# Altium schematic symbol library Chronos.SchLib: 154 symbols (part 1 of 4)
Pins are listed as number, name and electrical type; pins without a type are passive.

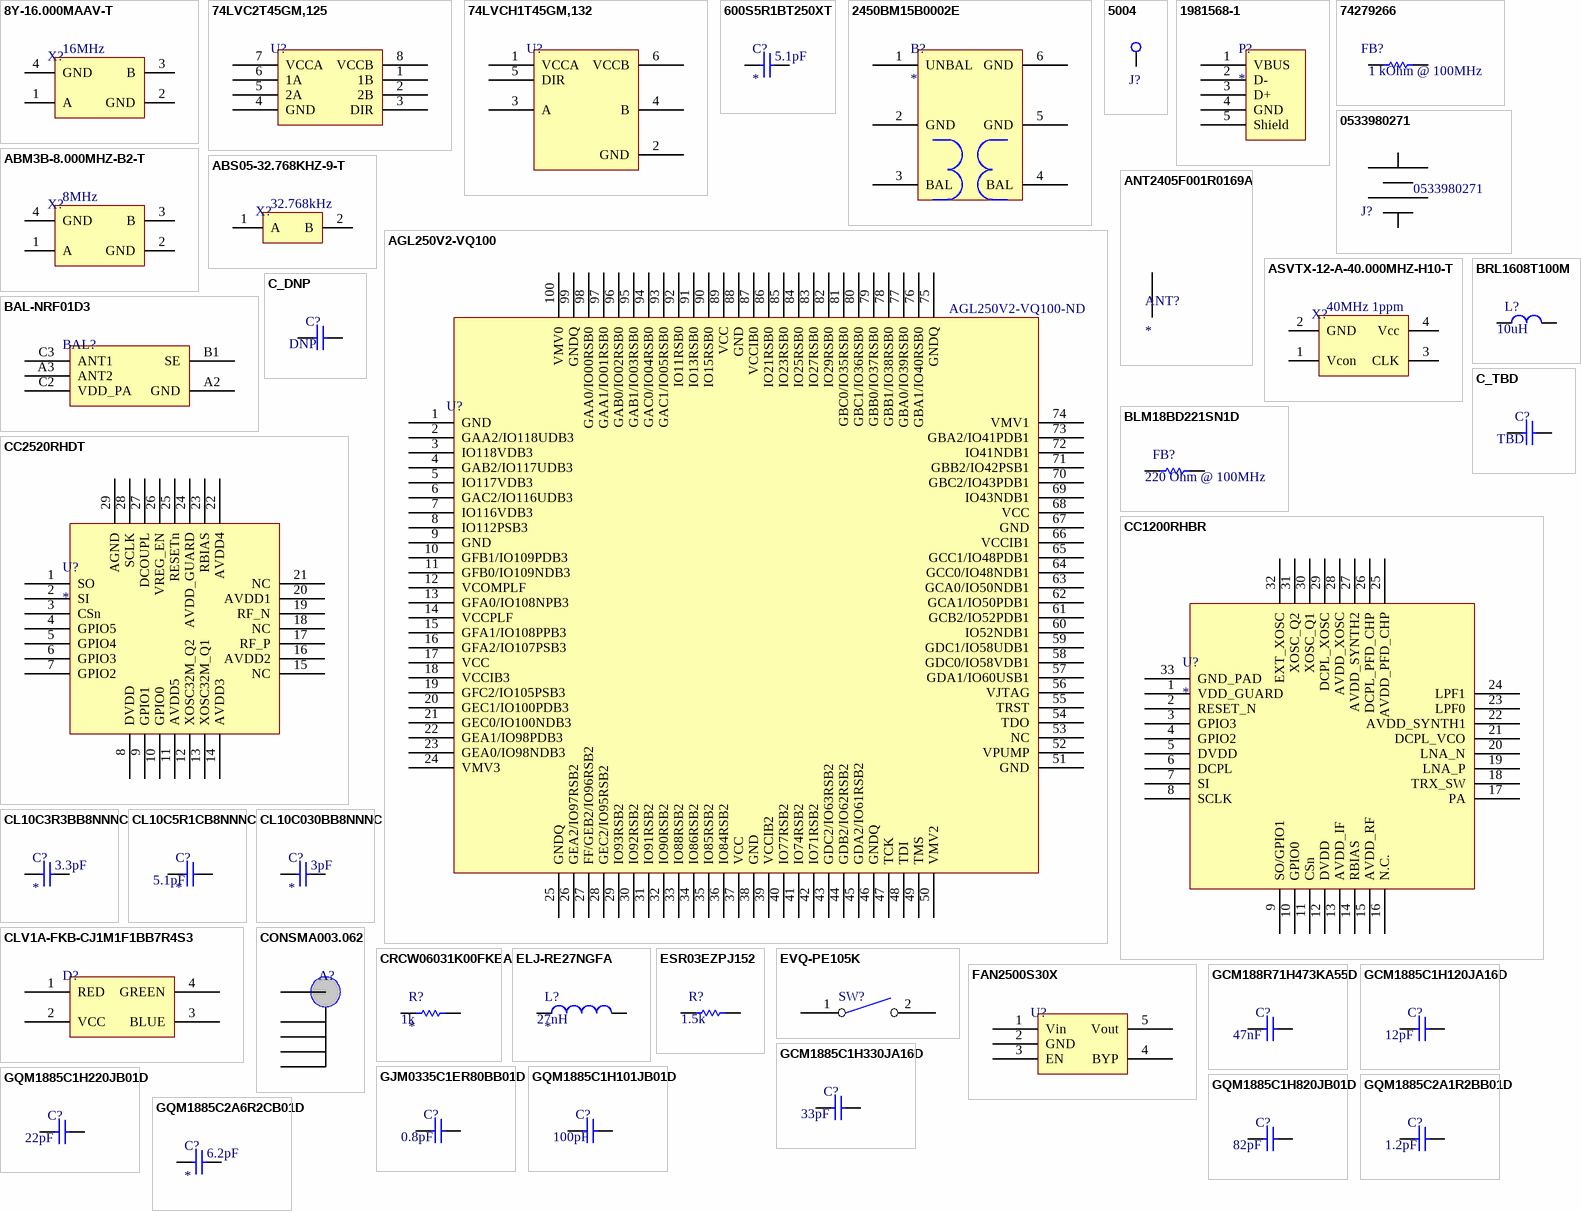
[diagram p0: symbols 8Y-16.000MAAV-T to GQM1885C2A6R2CB01D]

## 8Y-16.000MAAV-T
designator X?  (value not drawn)
CRYSTAL 16MHZ 8PF SMD; Manufacturer: TXC CORPORATION; Manufacturer Part Number: 8Y-16.000MAAV-T; Frequency Stability: ±30ppm; ESR (Equivalent Series Resistance): 200 Ohm; Operating Mode: Fundamental; Supplier 1: Digi-Key; RoHS: RoHS Compliant; Category: Crystals and Oscillators; Stock 1: 0; Pricing 1: 1=1.18, 10=1.13, 50=1.105, 100=0.945, 500=0.92, 1000=0.775 (USD); Packaging: Cut Tape (CT); Type: MHz Crystal; Frequency: 16MHz; Frequency Tolerance: ±30ppm; Load Capacitance: 8pF; Operating Temperature: -20°C ~ 70°C; Ratings: -; Mounting Type: Surface Mount; Package / Case: 4-SMD, No Lead (DFN, LCC); Size / Dimension: 0.079" L x 0.063" W (2.00mm x 1.60mm); Height: 0.020" (0.50mm); ComponentLink1URL: http://www.txccrystal.com/images/pdf/8y.pdf; ComponentLink1Description: http://www.txccrystal.com/images/pdf/8y.pdf
footprint 2.0x1.6x0.5mmXTAL
pins: 1 A, 2 GND, 3 B, 4 GND

## 74LVC2T45GM,125
designator U?  (value not drawn)
TXRX TRANSLATING 3ST 8XQFN; Manufacturer: NXP Semiconductors; Manufacturer Part Number: 74LVC2T45GM,125; Logic Function: Translator, Bidirectional, 3-State; Number of Bits: 2; Input Type: Logic; Data Rate: 420Mbps; Number of Outputs/Channel: 1; Differential - Input:Output: No/No; Propagation Delay (Max): 5.1ns; Voltage - Supply: 1.2 V ~ 5.5 V; Supplier 1: Digi-Key; RoHS: RoHS Compliant; Category: Integrated Circuits (ICs); Stock 1: 4000; Pricing 1: 4000=0.217, 8000=0.203, 12000=0.189, 28000=0.1792, 100000=0.1722, 200000=0.168 (USD); Packaging: Tape & Reel (TR); Output Type: Logic; Number of Channels: 2; Operating Temperature: -40°C ~ 125°C; Package / Case: 8-XFQFN Exposed Pad; Supplier Device Package: 8-XQFN (1.6x1.6); Mounting Type: Surface Mount; ComponentLink1URL: http://www.nxp.com/documents/data_sheet/74LVC_LVCH2T45.pdf; ComponentLink1Description: http://www.nxp.com/documents/data_sheet/74LVC_LVCH2T45.pdf
footprint XQFN8 (QFN, 8-Leads, Body 1.60x1.60mm, Pitch 0.55mm/0.50mm, IPC Medium Density)
pins: 1 1B, 2 2B, 3 DIR, 4 GND, 5 2A, 6 1A, 7 VCCA, 8 VCCB

## 74LVCH1T45GM,132
designator U?  (value not drawn)
TXRX XLATING DUAL 3ST XSON6; Manufacturer: NXP Semiconductors; Manufacturer Part Number: 74LVCH1T45GM,132; Logic Function: Translator, Bidirectional, 3-State; Number of Bits: 1; Input Type: Logic; Data Rate: 420Mbps; Differential - Input:Output: No/No; Propagation Delay (Max): 5.1ns; Voltage - Supply: 1.2 V ~ 5.5 V; Supplier 1: Digi-Key; RoHS: RoHS Compliant; Category: Integrated Circuits (ICs); Stock 1: 15000; Pricing 1: 5000=0.174, 10000=0.162, 25000=0.1536, 50000=0.15, 125000=0.144 (USD); Packaging: Tape & Reel (TR); Output Type: Logic; Number of Channels: 1; Number of Outputs/Channel: 1; Operating Temperature: -40°C ~ 125°C; Package / Case: 6-XFDFN; Supplier Device Package: 6-XSON, SOT886 (1.45x1); Mounting Type: Surface Mount; ComponentLink1URL: http://www.nxp.com/documents/data_sheet/74LVC_LVCH1T45.pdf; ComponentLink1Description: http://www.nxp.com/documents/data_sheet/74LVC_LVCH1T45.pdf
footprint SON50P100X50-6N (SON, 6-Leads, Body 1.45x1.00mm, Pitch 0.50mm, IPC Medium Density)
pins: 1 VCCA, 2 GND, 3 A, 4 B, 5 DIR, 6 VCCB

## 600S5R1BT250XT
designator C?  value 5.1pF
CAP CER 5.1PF 250V NP0 0603; Manufacturer: American Technical Ceramics; Manufacturer Part Number: 600S5R1BT250XT; Tolerance: ±0.1pF; Temperature Coefficient: C0G, NP0; Supplier 1: Digi-Key; RoHS: RoHS Compliant; Category: Capacitors; Stock 1: 7014; Pricing 1: 1=1.32, 10=1.082, 25=0.9768, 50=0.9504, 100=0.7656, 250=0.6336, 500=0.5676, 1000=0.528 (USD); Packaging: Cut Tape (CT); Capacitance: 5.1pF; Voltage - Rated: 250V; Mounting Type: Surface Mount, MLCC; Operating Temperature: -55°C ~ 125°C; Applications: RF, Microwave, High Frequency; Ratings: -; Package / Case: 0603 (1608 Metric); Size / Dimension: 0.063" L x 0.032" W (1.60mm x 0.81mm); Height - Seated (Max): -; Thickness (Max): 0.035" (0.89mm); Lead Spacing: -; Features: High Q, Low Loss, Ultra Low ESR, High Voltage; Lead Style: -; ComponentLink1URL: http://www.atceramics.com/Userfiles/600s.pdf; ComponentLink1Description: http://www.atceramics.com/Userfiles/600s.pdf; Supplier Part Number 1: 1284-1231-1-ND
footprint CAPC1608X08N (0603) (Chip Capacitor, 2-Leads, Body 1.60x0.80mm, IPC Medium Density)
pins: 1, 2

## 2450BM15B0002E
designator B?
BALUN-BPF TI CC2520 MATCHED; Manufacturer: Johanson Technology Inc; Manufacturer Part Number: 2450BM15B0002E; Frequency Range: 2.4GHz ~ 2.5GHz; Impedance - Unbalanced/Balanced: 50 / - Ohm; Phase Difference: 180° ±15; Insertion Loss (Max): 1.5dB; Return Loss (Min): 9.5dB; Supplier 1: Digi-Key; RoHS: RoHS Compliant; Category: RF/IF and RFID; Stock 1: 4000; Pricing 1: 4000=0.30938, 8000=0.29813, 12000=0.29318, 28000=0.28688, 100000=0.27293 (USD); Packaging: Tape & Reel (TR); Package / Case: 0805 (2012 Metric), 6 PC Pad; Mounting Type: Surface Mount; ComponentLink1URL: http://johansontechnology.com/datasheets/balun-filter/2450BM15B0002.pdf; ComponentLink1Description: http://johansontechnology.com/datasheets/balun-filter/2450BM15B0002.pdf
footprint 2450BM15B0002 (2.45 GHz Balun)
pins: 1 UNBAL, 2 GND, 3 BAL, 4 BAL, 5 GND, 6 GND

## 5004
designator J?  (value not drawn)
TEST POINT PC MINI .040"D YELLOW; Manufacturer: Keystone Electronics; Manufacturer Part Number: 5004; Supplier 1: Digi-Key; RoHS: RoHS Compliant; Category: Test and Measurement; Stock 1: 45761; Pricing 1: 1=0.34, 10=0.318, 50=0.232, 100=0.2228, 250=0.20008, 500=0.191, 1000=0.15916, 2500=0.14552, 5000=0.13643 (USD); Packaging: Bulk; Type: PC Test Point, Miniature; Terminal: 0.010" x 0.020" (0.25mm x 0.51mm) Phosphor Bronze Wire, Silver Plated; Mounting Type: 0.040" (1.02mm) Hole Diameter; Material: Base, Nylon 46, UL 94V-0; Color: Yellow; ComponentLink1URL: http://www.keyelco.com/product-pdf.cfm?p=1313; ComponentLink1Description: http://www.keyelco.com/product-pdf.cfm?p=1313
footprint TP
pins: 1

## 1981568-1
designator P?
CONN RCPT MICRO USB B R/A SMD; Manufacturer: TE Connectivity; Manufacturer Part Number: 1981568-1; Connector Type: USB - micro B; Number of Contacts: 5; Gender: Receptacle; Specifications: USB 1.0; Supplier 1: Digi-Key; RoHS: RoHS Compliant; Category: Connectors, Interconnects; Stock 1: 10146; Pricing 1: 1=1.8, 10=1.636, 25=1.5364, 50=1.4694, 100=1.4026, 250=1.26904, 500=1.16886 (USD); Packaging: Cut Tape (CT); Mounting Type: Surface Mount, Right Angle, Horizontal; Features: -; Ingress Protection: -; ComponentLink1URL: http://www.te.com/commerce/DocumentDelivery/DDEController?Action=srchrtrv&DocNm=1981568&DocType=Customer+Drawing&DocLang=English; ComponentLink1Description: http://www.te.com/commerce/DocumentDelivery/DDEController?Action=srchrtrv&DocNm=1981568&DocType=Customer+Drawing&DocLang=English
footprint microUSB
pins: 1 VBUS, 2 D-, 3 D+, 4 GND, 5 Shield

## 74279266
designator FB?  (value not drawn)
FERR BEAD 1000 OHM WIDE BAND SMD; Manufacturer: Wurth Electronics Inc; Manufacturer Part Number: 74279266; Impedance @ Frequency: 1 kOhm @ 100MHz; Current Rating: 200mA; DC Resistance (DCR): 600 mOhm Max; Filter Type: Differential Mode - Single; Supplier 1: Digi-Key; RoHS: RoHS Compliant; Category: Filters; Stock 1: 40000; Pricing 1: 4000=0.1275 (USD); Packaging: Tape & Reel (TR); Package / Case: 0603 (1608 Metric); Mounting Type: Surface Mount; Height (Max): 0.039" (1.00mm); Size / Dimension: 0.063" L x 0.031" W (1.60mm x 0.80mm); ComponentLink1URL: http://katalog-live.we-online.de/pbs/datasheet/74279266.pdf; ComponentLink1Description: http://katalog-live.we-online.de/pbs/datasheet/74279266.pdf
footprint RESC1608X06N (0603) (Chip Resistor, 2-Leads, Body 1.60x0.80mm, IPC Medium Density)
pins: 1, 2

## 0533980271
designator J?  Manufacturer Part Number: 0533980271  (hidden comment: *)
CONN HEADER 2POS 1.25MM VERT SMD; Manufacturer: Molex Inc; Connector Type: Header, Male Blades; Number of Positions: 2; Pitch: 0.049" (1.25mm); Supplier 1: Digi-Key; RoHS: RoHS Compliant; Category: Connectors, Interconnects; Stock 1: 14126; Pricing 1: 1=1.4, 10=1.091, 25=1.0168, 50=0.923, 100=0.8323, 250=0.7014, 500=0.66448 (USD); Connector Style: -; Mounting Type: Surface Mount; Termination: Solder; Wire Gauge: -; Features: -; Color: Natural; Packaging: Cut Tape (CT); ComponentLink1URL: http://www.molex.com/pdm_docs/sd/533980271_sd.pdf; ComponentLink1Description: http://www.molex.com/pdm_docs/sd/533980271_sd.pdf; Supplier Part Number 1: WM7606CT-ND
footprint 53398-0271 (1.25mm Pitch PicoBlade™ Header, Surface Mount, Vertical, Lead-Free, 2 Circuits)
pins: 1 Pos, 2 Neg

## ABM3B-8.000MHZ-B2-T
designator X?  (value not drawn)
CRYSTAL 8MHZ 18PF SMD; Manufacturer: Abracon Corporation; Manufacturer Part Number: ABM3B-8.000MHZ-B2-T; Frequency Stability: ±50ppm; Frequency Tolerance: ±20ppm; ESR (Equivalent Series Resistance): 200 Ohm; Operating Mode: Fundamental; Supplier 1: Digi-Key; RoHS: RoHS Compliant; Category: Crystals and Oscillators; Stock 1: 27000; Pricing 1: 1000=0.57, 3000=0.551, 5000=0.532, 10000=0.513 (USD); Packaging: Tape & Reel (TR); Type: MHz Crystal; Frequency: 8MHz; Load Capacitance: 18pF; Operating Temperature: -20°C ~ 70°C; Ratings: -; Mounting Type: Surface Mount; Package / Case: 4-SMD, No Lead (DFN, LCC); Size / Dimension: 0.197" L x 0.126" W (5.00mm x 3.20mm); Height: 0.043" (1.10mm); ComponentLink1URL: http://www.abracon.com/Resonators/abm3b.pdf; ComponentLink1Description: http://www.abracon.com/Resonators/abm3b.pdf
footprint 5.0x3.2x1.1mmXTAL
pins: 1 A, 2 GND, 3 B, 4 GND

## ABS05-32.768KHZ-9-T
designator X?  (value not drawn)
CRYSTAL 32.768KHZ 9PF SMD; Manufacturer: Abracon Corporation; Manufacturer Part Number: ABS05-32.768KHZ-9-T; Frequency Tolerance: ±20ppm; ESR (Equivalent Series Resistance): 90 kOhm; Operating Mode: Fundamental; Supplier 1: Digi-Key; RoHS: RoHS Compliant; Category: Crystals and Oscillators; Stock 1: 21000; Pricing 1: 3000=0.952, 6000=0.918, 15000=0.884 (USD); Packaging: Tape & Reel (TR); Type: kHz Crystal (Tuning Fork); Frequency: 32.768kHz; Frequency Stability: -; Load Capacitance: 9pF; Operating Temperature: -40°C ~ 85°C; Ratings: -; Mounting Type: Surface Mount; Package / Case: 2-SMD; Size / Dimension: 0.063" L x 0.039" W (1.60mm x 1.00mm); Height: 0.020" (0.50mm); ComponentLink1URL: http://www.abracon.com/Resonators/ABS05.pdf; ComponentLink1Description: http://www.abracon.com/Resonators/ABS05.pdf; Supplier 2: Digi-Key
footprint 1.6x1.0x0.5mmXTAL
pins: 1 A, 2 B

## AGL250V2-VQ100
designator U?  Supplier Part Number 1: AGL250V2-VQ100-ND  (hidden comment: *)
IC FPGA 68 I/O 100VQFP; Manufacturer: Microsemi SoC; Manufacturer Part Number: AGL250V2-VQ100; Number of Logic Elements/Cells: 6144; Total RAM Bits: 36864; Number of I/O: 68; Number of Gates: 250000; Voltage - Supply: 1.14 V ~ 1.575 V; Supplier 1: Digi-Key; RoHS: RoHS non-compliant; Category: Integrated Circuits (ICs); Stock 1: 0; Pricing 1: 90=21.59 (USD); Number of LABs/CLBs: -; Mounting Type: Surface Mount; Operating Temperature: 0°C ~ 70°C; Package / Case: 100-TQFP; Supplier Device Package: 100-VQFP (14x14); ComponentLink1URL: http://www.microsemi.com/document-portal/doc_download/130694-igloo-low-power-flash-fpgas-datasheet; ComponentLink1Description: http://www.microsemi.com/document-portal/doc_download/130694-igloo-low-power-flash-fpgas-datasheet
footprint TSQFP50P1600X1600X120-100N (TSQFP, 100-Leads, Body 14.00x14.00mm, Pitch 0.50mm, IPC Medium Density)
pins: 1 GND, 2 GAA2/IO118UDB3, 3 IO118VDB3, 4 GAB2/IO117UDB3, 5 IO117VDB3, 6 GAC2/IO116UDB3, 7 IO116VDB3, 8 IO112PSB3, 9 GND, 10 GFB1/IO109PDB3, 11 GFB0/IO109NDB3, 12 VCOMPLF, 13 GFA0/IO108NPB3, 14 VCCPLF, 15 GFA1/IO108PPB3, 16 GFA2/IO107PSB3, 17 VCC, 18 VCCIB3, 19 GFC2/IO105PSB3, 20 GEC1/IO100PDB3, 21 GEC0/IO100NDB3, 22 GEA1/IO98PDB3, 23 GEA0/IO98NDB3, 24 VMV3, 25 GNDQ, 26 GEA2/IO97RSB2, 27 FF/GEB2/IO96RSB2, 28 GEC2/IO95RSB2, 29 IO93RSB2, 30 IO92RSB2, 31 IO91RSB2, 32 IO90RSB2, 33 IO88RSB2, 34 IO86RSB2, 35 IO85RSB2, 36 IO84RSB2, 37 VCC, 38 GND, 39 VCCIB2, 40 IO77RSB2, 41 IO74RSB2, 42 IO71RSB2, 43 GDC2/IO63RSB2, 44 GDB2/IO62RSB2, 45 GDA2/IO61RSB2, 46 GNDQ, 47 TCK, 48 TDI, 49 TMS, 50 VMV2, 51 GND, 52 VPUMP, 53 NC, 54 TDO, 55 TRST, 56 VJTAG, 57 GDA1/IO60USB1, 58 GDC0/IO58VDB1, 59 GDC1/IO58UDB1, 60 IO52NDB1, 61 GCB2/IO52PDB1, 62 GCA1/IO50PDB1, 63 GCA0/IO50NDB1, 64 GCC0/IO48NDB1, 65 GCC1/IO48PDB1, 66 VCCIB1, 67 GND, 68 VCC, 69 IO43NDB1, 70 GBC2/IO43PDB1, 71 GBB2/IO42PSB1, 72 IO41NDB1, 73 GBA2/IO41PDB1, 74 VMV1, 75 GNDQ, 76 GBA1/IO40RSB0, 77 GBA0/IO39RSB0, 78 GBB1/IO38RSB0, 79 GBB0/IO37RSB0, 80 GBC1/IO36RSB0, 81 GBC0/IO35RSB0, 82 IO29RSB0, 83 IO27RSB0, 84 IO25RSB0, 85 IO23RSB0, 86 IO21RSB0, 87 VCCIB0, 88 GND, 89 VCC, 90 IO15RSB0, 91 IO13RSB0, 92 IO11RSB0, 93 GAC1/IO05RSB0, 94 GAC0/IO04RSB0, 95 GAB1/IO03RSB0, 96 GAB0/IO02RSB0, 97 GAA1/IO01RSB0, 98 GAA0/IO00RSB0, 99 GNDQ, 100 VMV0

## ANT2405F001R0169A
designator ANT?
CHIP ANTENNA 169MHZ 24X05X1.6 MM; Manufacturer: Yageo; Manufacturer Part Number: ANT2405F001R0169A; Number of Bands: 1; Supplier 1: Digi-Key; RoHS: RoHS Compliant; Category: RF/IF and RFID; Stock 1: 0; Pricing 1: 2000=1.66383, 6000=1.60128, 10000=1.55124, 50000=1.5012 (USD); Packaging: Tape & Reel (TR); Antenna Type: Chip; Frequency: 169MHz; VSWR: -; Gain: -; Termination: Surface Mount; Mounting Type: Surface Mount; Height (Max): 0.063" (1.60mm); ComponentLink1URL: http://www.yageo.com/documents/recent/An_FR4_1690_2405_0.pdf; ComponentLink1Description: http://www.yageo.com/documents/recent/An_FR4_1690_2405_0.pdf
footprint ANT-2405-F-001-R-0169A
pins: 0 hidden, 1, 2 hidden, 3 hidden

## ASVTX-12-A-40.000MHZ-H10-T
designator X?  (value not drawn)
OSC VCTCXO 40.000MHZ SNWV SMD; Manufacturer: Abracon Corporation; Manufacturer Part Number: ASVTX-12-A-40.000MHZ-H10-T; Frequency: 40MHz; Output: Clipped Sine Wave; Voltage - Supply: 3V; Frequency Stability: ±1ppm; Current - Supply (Max): 2.5mA; Supplier 1: Digi-Key; RoHS: RoHS Compliant; Category: Crystals and Oscillators; Stock 1: 0; Pricing 1: 1000=2.17, 3000=2.015, 5000=1.9375 (USD); Packaging: Tape & Reel (TR); Type: VCTCXO; Function: -; Operating Temperature: -30°C ~ 85°C; Ratings: -; Mounting Type: Surface Mount; Size / Dimension: 0.098" L x 0.079" W (2.50mm x 2.00mm); Height: 0.035" (0.90mm); Package / Case: 4-SMD, No Lead (DFN, LCC); Current - Supply (Disable) (Max): -; ComponentLink1URL: http://www.abracon.com/Oscillators/ASTX12_ASVTX12.pdf; ComponentLink1Description: http://www.abracon.com/Oscillators/ASTX12_ASVTX12.pdf
footprint 2.5x2.0x0.9mmXTAL
pins: 1 Vcon, 2 GND, 3 CLK, 4 Vcc
text: 40MHz 1ppm

## BAL-NRF01D3
designator BAL?  (value not drawn)
TRANSFORMER BALUN 50OHM FLIPCHIP; Manufacturer: STMicroelectronics; Manufacturer Part Number: BAL-NRF01D3; Frequency Range: 2.4GHz ~ 2.54GHz; Impedance - Unbalanced/Balanced: 50 / - Ohm; Phase Difference: 3°; Insertion Loss (Max): 2.25dB; Return Loss (Min): 10dB; Supplier 1: Digi-Key; RoHS: RoHS Compliant; Category: RF/IF and RFID; Stock 1: 45000; Pricing 1: 5000=0.27, 10000=0.266 (USD); Packaging: Tape & Reel (TR); Package / Case: 5-WFBGA, FCBGA; Mounting Type: Surface Mount; ComponentLink1URL: http://www.st.com/st-web-ui/static/active/en/resource/technical/document/datasheet/DM00055606.pdf; ComponentLink1Description: http://www.st.com/st-web-ui/static/active/en/resource/technical/document/datasheet/DM00055606.pdf
footprint BAL-NRF01D3
pins: A2 GND, A3 ANT2, B1 SE, C2 VDD_PA, C3 ANT1

## BLM18BD221SN1D
designator FB?  (value not drawn)
FERRITE CHIP 220 OHM 200MA 0603; Manufacturer: Murata Electronics North America; Manufacturer Part Number: BLM18BD221SN1D; Impedance @ Frequency: 220 Ohm @ 100MHz; DC Resistance (DCR): 450 mOhm Max; Filter Type: Differential Mode - Single; Supplier 1: Digi-Key; RoHS: RoHS Compliant; Category: Filters; Stock 1: 35645; Pricing 1: 1=0.1, 10=0.087, 50=0.0712, 100=0.0523, 250=0.038, 500=0.03484, 1000=0.0301 (USD); Packaging: Cut Tape (CT); Current Rating: 200mA; Package / Case: 0603 (1608 Metric); Mounting Type: Surface Mount; Height (Max): 0.037" (0.95mm); Size / Dimension: 0.063" L x 0.031" W (1.60mm x 0.80mm); ComponentLink1URL: http://search.murata.co.jp/Ceramy/image/img/PDF/ENG/L0110S0100BLM18B.pdf; ComponentLink1Description: http://search.murata.co.jp/Ceramy/image/img/PDF/ENG/L0110S0100BLM18B.pdf
footprint RESC1608X06N (0603) (Chip Resistor, 2-Leads, Body 1.60x0.80mm, IPC Medium Density)
pins: 1, 2

## BRL1608T100M
designator L?  (value not drawn)
FIXED IND 10UH 220MA 2.6 OHM SMD; Manufacturer: Taiyo Yuden; Manufacturer Part Number: BRL1608T100M; Type: Wirewound; Inductance: 10µH; Tolerance: ±20%; Current - Saturation: 170mA; Shielding: Unshielded; DC Resistance (DCR): 2.6 Ohm Max; Frequency - Self Resonant: 45MHz; Frequency - Test: 1MHz; Supplier 1: Digi-Key; RoHS: RoHS Compliant; Category: Inductors, Coils, Chokes; Stock 1: 28486; Pricing 1: 1=0.31, 10=0.288, 50=0.27, 100=0.252, 500=0.198, 1000=0.162 (USD); Packaging: Cut Tape (CT); Material - Core: -; Current Rating: 220mA; Q @ Freq: -; Operating Temperature: -40°C ~ 105°C; Mounting Type: Surface Mount; Package / Case: 0603 (1608 Metric); Size / Dimension: 0.063" L x 0.031" W (1.60mm x 0.80mm); Height - Seated (Max): 0.028" (0.70mm); Supplier Device Package: 0603 (1608 Metric); ComponentLink1URL: http://www.yuden.co.jp/ut/product/category/inductor/BRL1608T100M.pdf; ComponentLink1Description: http://www.yuden.co.jp/ut/product/category/inductor/BRL1608T100M.pdf
footprint INDC1608X08N (Chip Inductor, 2-Leads, Body 1.60x0.80mm, IPC Medium Density)
pins: 1, 2
text: 10uH

## C_DNP
designator C?  value DNP  (hidden comment: *)
C_DNP; Mounting Type: Surface Mount, MLCC; Applications: General Purpose; Package / Case: 0603 (1608 Metric)
footprint CAPC1608X08N (0603) (Chip Capacitor, 2-Leads, Body 1.60x0.80mm, IPC Medium Density)
pins: 1, 2

## C_TBD
designator C?  value TBD  (hidden comment: *)
C_TBD; Mounting Type: Surface Mount, MLCC; Applications: General Purpose; Package / Case: 0603 (1608 Metric)
footprint CAPC1608X08N (0603) (Chip Capacitor, 2-Leads, Body 1.60x0.80mm, IPC Medium Density)
pins: 1, 2

## CC1200RHBR
designator U?
IC RF TXRX SNGL-CHIP LP 32-QFN; Manufacturer: Texas Instruments; Manufacturer Part Number: CC1200RHBR; Frequency: 164MHz ~ 190MHz, 410MHz ~ 475MHz, 820MHz ~ 950MHz; Data Rate (Max): 1.25Mbps; Modulation or Protocol: FSK, GFSK, MSK, OOK; Power - Output: 16dBm; Sensitivity: -125dBm; Voltage - Supply: 2 V ~ 3.6 V; Current - Receiving: 19mA; Current - Transmitting: 54mA; Data Interface: PCB, Surface Mount; Supplier 1: Digi-Key; RoHS: RoHS Compliant; Category: RF/IF and RFID; Stock 1: 0; Pricing 1: 3000=2.926 (USD); Packaging: Tape & Reel (TR); Applications: General Purpose; Memory Size: -; Antenna Connector: PCB, Surface Mount; Operating Temperature: -40°C ~ 85°C; Package / Case: 32-VFQFN Exposed Pad; ComponentLink1URL: http://www.ti.com/lit/ds/symlink/cc1200.pdf; ComponentLink1Description: http://www.ti.com/lit/ds/symlink/cc1200.pdf
footprint S-PVQFN-N32 (QFN, 32-Leads, Body 5.00x5.00mm, Pitch 0.50mm, Thermal Pad 3.45x3.40mm, IPC Medium Density)
pins: 1 VDD_GUARD, 2 RESET_N, 3 GPIO3, 4 GPIO2, 5 DVDD, 6 DCPL, 7 SI, 8 SCLK, 9 SO/GPIO1, 10 GPIO0, 11 CSn, 12 DVDD, 13 AVDD_IF, 14 RBIAS, 15 AVDD_RF, 16 N.C., 17 PA, 18 TRX_SW, 19 LNA_P, 20 LNA_N, 21 DCPL_VCO, 22 AVDD_SYNTH1, 23 LPF0, 24 LPF1, 25 AVDD_PFD_CHP, 26 DCPL_PFD_CHP, 27 AVDD_SYNTH2, 28 AVDD_XOSC, 29 DCPL_XOSC, 30 XOSC_Q1, 31 XOSC_Q2, 32 EXT_XOSC, 33 GND_PAD

## CC2520RHDT
designator U?
IC TXRX RF ZIGBEE 2.4GHZ 28VQFN; Manufacturer: Texas Instruments; Manufacturer Part Number: CC2520RHDT; Data Rate (Max): 250kbps; Power - Output: -9dBm ~ 8dBm; Sensitivity: -98dBm; Voltage - Supply: 1.8 V ~ 3.8 V; Current - Receiving: 22.3mA; Current - Transmitting: 25.8mA; Data Interface: PCB, Surface Mount; Supplier 1: Digi-Key; RoHS: RoHS Compliant; Category: RF/IF and RFID; Stock 1: 5911; Pricing 1: 1=6.05, 10=5.418, 25=4.872, 100=4.431 (USD); Packaging: Cut Tape (CT); Frequency: 2.4GHz; Modulation or Protocol: 802.15.4; Applications: AMR, ISM, ZigBee™; Memory Size: -; Antenna Connector: PCB, Surface Mount; Operating Temperature: -40°C ~ 125°C; Package / Case: 28-VFQFN Exposed Pad; ComponentLink1URL: http://www.ti.com/lit/ds/symlink/cc2520.pdf; ComponentLink1Description: http://www.ti.com/lit/ds/symlink/cc2520.pdf
footprint S-PVQFN-N28 (QFN, 28-Leads, Body 5.00x5.00mm, Pitch 0.50mm, Thermal Pad 3.15x3.15mm, IPC Medium Density)
pins: 1 SO, 2 SI, 3 CSn, 4 GPIO5, 5 GPIO4, 6 GPIO3, 7 GPIO2, 8 DVDD, 9 GPIO1, 10 GPIO0, 11 AVDD5, 12 XOSC32M_Q2, 13 XOSC32M_Q1, 14 AVDD3, 15 NC, 16 AVDD2, 17 RF_P, 18 NC, 19 RF_N, 20 AVDD1, 21 NC, 22 AVDD4, 23 RBIAS, 24 AVDD_GUARD, 25 RESETn, 26 VREG_EN, 27 DCOUPL, 28 SCLK, 29 AGND

## CL10C3R3BB8NNNC
designator C?  value 3.3pF
CAP CER 3.3PF 50V NP0 0603; Manufacturer: Samsung Electro-Mechanics America, Inc.; Manufacturer Part Number: CL10C3R3BB8NNNC; Tolerance: ±0.1pF; Temperature Coefficient: C0G, NP0; Supplier 1: Digi-Key; RoHS: RoHS Compliant; Category: Capacitors; Stock 1: 22193; Pricing 1: 1=0.1, 10=0.046, 25=0.0328, 50=0.0252, 100=0.0213, 500=0.0149, 1000=0.01161 (USD); Packaging: Cut Tape (CT); Capacitance: 3.3pF; Voltage - Rated: 50V; Mounting Type: Surface Mount, MLCC; Operating Temperature: -55°C ~ 125°C; Applications: General Purpose; Ratings: -; Package / Case: 0603 (1608 Metric); Size / Dimension: 0.063" L x 0.031" W (1.60mm x 0.80mm); Height - Seated (Max): -; Thickness (Max): 0.035" (0.90mm); Lead Spacing: -; Features: -; Lead Style: -; ComponentLink1URL: http://www.samsungsem.com/kr/support/product-search/mlcc/CL10C3R3BB8NNNC.jsp; ComponentLink1Description: http://www.samsungsem.com/kr/support/product-search/mlcc/CL10C3R3BB8NNNC.jsp; Supplier Part Number 1: 1276-1241-1-ND
footprint CAPC1608X08N (0603) (Chip Capacitor, 2-Leads, Body 1.60x0.80mm, IPC Medium Density)
pins: 1, 2

## CL10C5R1CB8NNNC
designator C?  value 5.1pF
CAP CER 5.1PF 50V NP0 0603; Manufacturer: Samsung Electro-Mechanics America, Inc.; Manufacturer Part Number: CL10C5R1CB8NNNC; Tolerance: ±0.25pF; Temperature Coefficient: C0G, NP0; Supplier 1: Digi-Key; RoHS: RoHS Compliant; Category: Capacitors; Stock 1: 12000; Pricing 1: 4000=0.00814, 8000=0.00743, 12000=0.00708, 28000=0.00673, 100000=0.00487 (USD); Packaging: Tape & Reel (TR); Capacitance: 5.1pF; Voltage - Rated: 50V; Mounting Type: Surface Mount, MLCC; Operating Temperature: -55°C ~ 125°C; Applications: General Purpose; Ratings: -; Package / Case: 0603 (1608 Metric); Size / Dimension: 0.063" L x 0.031" W (1.60mm x 0.80mm); Height - Seated (Max): -; Thickness (Max): 0.035" (0.90mm); Lead Spacing: -; Features: -; Lead Style: -; ComponentLink1URL: http://www.samsungsem.com/kr/support/product-search/mlcc/CL10C5R1CB8NNNC.jsp; ComponentLink1Description: http://www.samsungsem.com/kr/support/product-search/mlcc/CL10C5R1CB8NNNC.jsp; Supplier Part Number 1: 1276-2317-2-ND
footprint CAPC1608X08N (0603) (Chip Capacitor, 2-Leads, Body 1.60x0.80mm, IPC Medium Density)
pins: 1, 2

## CL10C030BB8NNNC
designator C?  value 3pF
CAP CER 3PF 50V NP0 0603; Manufacturer: Samsung Electro-Mechanics America, Inc.; Manufacturer Part Number: CL10C030BB8NNNC; Tolerance: ±0.1pF; Temperature Coefficient: C0G, NP0; Supplier 1: Digi-Key; RoHS: RoHS Compliant; Category: Capacitors; Stock 1: 59011; Pricing 1: 1=0.1, 10=0.015, 25=0.0108, 50=0.0084, 100=0.0071, 500=0.00496, 1000=0.00387 (USD); Packaging: Cut Tape (CT); Capacitance: 3pF; Voltage - Rated: 50V; Mounting Type: Surface Mount, MLCC; Operating Temperature: -55°C ~ 125°C; Applications: General Purpose; Ratings: -; Package / Case: 0603 (1608 Metric); Size / Dimension: 0.063" L x 0.031" W (1.60mm x 0.80mm); Height - Seated (Max): -; Thickness (Max): 0.035" (0.90mm); Lead Spacing: -; Features: -; Lead Style: -; ComponentLink1URL: http://www.samsungsem.com/kr/support/product-search/mlcc/CL10C030BB8NNNC.jsp; ComponentLink1Description: http://www.samsungsem.com/kr/support/product-search/mlcc/CL10C030BB8NNNC.jsp; Supplier Part Number 1: 1276-2125-1-ND
footprint CAPC1608X08N (0603) (Chip Capacitor, 2-Leads, Body 1.60x0.80mm, IPC Medium Density)
pins: 1, 2

## CLV1A-FKB-CJ1M1F1BB7R4S3
designator D?  (value not drawn)
LED RED/GREEN/BLUE PLCC4 SMD; Manufacturer: Cree Inc; Manufacturer Part Number: CLV1A-FKB-CJ1M1F1BB7R4S3; Color: Red, Green, Blue (RGB); Wavelength - Dominant: 621.5nm, 530nm, 472.5nm; Wavelength - Peak: 630nm, 527nm, 470nm; Millicandela Rating: 675mcd Red, 1055mcd Green, 337mcd Blue; Voltage - Forward (Vf) (Typ): 2V Red, 3.2V Green, 3.2V Blue; Current - Test: 20mA; Viewing Angle: 120°; Lens Type: Diffused, White; Lens Style/Size: Round with Flat Top, 2.2mm; Supplier 1: Digi-Key; RoHS: RoHS Compliant; Category: Optoelectronics; Stock 1: 254000; Pricing 1: 2000=0.354, 50000=0.329, 100000=0.307 (USD); Packaging: Tape & Reel (TR); Package / Case: 4-PLCC; Size / Dimension: 3.20mm L x 2.80mm W; Height: 2.10mm; Mounting Type: Surface Mount; Luminous Flux @ Current - Test: -; ComponentLink1URL: http://www.cree.com/~/media/Files/Cree/LED%20Components%20and%20Modules/HB/Data%20Sheets/CLV1AFKB(874).pdf; ComponentLink1Description: http://www.cree.com/~/media/Files/Cree/LED%20Components%20and%20Modules/HB/Data%20Sheets/CLV1AFKB(874).pdf
footprint CREE LV1
pins: 1 RED, 2 VCC, 3 BLUE, 4 GREEN

## CONSMA003.062
designator A?  (value not drawn)
CONN SMA JACK 50 OHM EDGE MNT; Manufacturer: Linx Technologies Inc; Manufacturer Part Number: CONSMA003.062; Connector Type: Jack, Female Socket; Contact Termination: Solder; Impedance: 50 Ohm; Body Material: Brass; Body Finish: Nickel; Center Contact Material: Beryllium Copper; Center Contact Plating: Gold; Dielectric Material: Polytetrafluoroethylene (PTFE); Supplier 1: Digi-Key; RoHS: RoHS Compliant; Category: Connectors, Interconnects; Stock 1: 6857; Pricing 1: 1=3.37, 25=3.09, 100=2.81, 500=2.6125 (USD); Packaging: Bulk; Connector Style: SMA; Shield Termination: Solder; Mounting Type: Board Edge, End Launch; Cable Group: -; Fastening Type: Threaded; Frequency - Max: -; Features: -; Housing Color: Silver; Ingress Protection: -; Voltage Rating: -; Operating Temperature: -65°C ~ 165°C; ComponentLink1URL: http://www.linxtechnologies.com/resources/diagrams/consma003.062.pdf; ComponentLink1Description: http://www.linxtechnologies.com/resources/diagrams/consma003.062.pdf
footprint SMA_EDGE_MNT
pins: 1, 2, 3, 4, 5

## CRCW06031K00FKEA
designator R?  value 1k
RES SMD 1K OHM 1% 1/10W 0603; Manufacturer: Vishay Dale; Manufacturer Part Number: CRCW06031K00FKEA; Power (Watts): 0.1W, 1/10W; Temperature Coefficient: ±100ppm/°C; Supplier 1: Digi-Key; RoHS: RoHS Compliant; Category: Resistors; Stock 1: 1035099; Pricing 1: 10=0.081, 50=0.0436, 200=0.0251, 1000=0.01711 (USD); Packaging: Digi-Reel®; Resistance (Ohms): 1k; Tolerance: ±1%; Composition: Thick Film; Features: Automotive AEC-Q200; Operating Temperature: -55°C ~ 155°C; Package / Case: 0603 (1608 Metric); Supplier Device Package: 0603 (1608 Metric); Size / Dimension: 0.061" L x 0.033" W (1.55mm x 0.85mm); Height: 0.020" (0.50mm); Number of Terminations: 2; ComponentLink1URL: http://www.vishay.com/docs/20035/dcrcwe3.pdf; ComponentLink1Description: http://www.vishay.com/docs/20035/dcrcwe3.pdf; Supplier Part Number 1: 541-1.00KHDKR-ND
footprint RESC1608X06N (0603) (Chip Resistor, 2-Leads, Body 1.60x0.80mm, IPC Medium Density)
pins: 1, 2

## ELJ-RE27NGFA
designator L?  value 27nH
FIXED IND 27NH 300MA 550 MOHM; Manufacturer: Panasonic Electronic Components; Manufacturer Part Number: ELJ-RE27NGFA; Type: Multilayer; Material - Core: Non-Magnetic; Tolerance: ±2%; Shielding: Unshielded; DC Resistance (DCR): 550 mOhm Max; Q @ Freq: 10 @ 100MHz; Frequency - Self Resonant: 2GHz; Frequency - Test: 100MHz; Supplier 1: Digi-Key; RoHS: RoHS Compliant; Category: Inductors, Coils, Chokes; Stock 1: 15000; Pricing 1: 3000=0.0489, 6000=0.04727, 9000=0.04564, 15000=0.04401, 30000=0.04189 (USD); Packaging: Tape & Reel (TR); Inductance: 27nH; Current Rating: 300mA; Current - Saturation: -; Ratings: -; Operating Temperature: -40°C ~ 85°C; Mounting Type: Surface Mount; Package / Case: 0603 (1608 Metric); Size / Dimension: 0.063" L x 0.031" W (1.60mm x 0.80mm); Height - Seated (Max): 0.031" (0.80mm); ComponentLink1URL: http://industrial.panasonic.com/www-cgi/jvcr13pz.cgi?E+PZ+3+AGA0024+ELJRE27NGFA+7+WW; ComponentLink1Description: http://industrial.panasonic.com/www-cgi/jvcr13pz.cgi?E+PZ+3+AGA0024+ELJRE27NGFA+7+WW; Supplier Part Number 1: PCD2007TR-ND
footprint INDC1608X08N (Chip Inductor, 2-Leads, Body 1.60x0.80mm, IPC Medium Density)
pins: 1, 2

## ESR03EZPJ152
designator R?  (value not drawn)
RES 1.5K OHM 1/4W 5% 0603 SMD; Manufacturer: Rohm Semiconductor; Manufacturer Part Number: ESR03EZPJ152; Power (Watts): 0.25W, 1/4W; Temperature Coefficient: ±200ppm/°C; Supplier 1: Digi-Key; RoHS: RoHS Compliant; Category: Resistors; Stock 1: 15000; Pricing 1: 5000=0.00935, 10000=0.00839, 25000=0.0077, 50000=0.00723, 125000=0.00707 (USD); Packaging: Tape & Reel (TR); Resistance (Ohms): 1.5k; Tolerance: ±5%; Composition: Thick Film; Features: Pulse Withstanding; Package / Case: 0603 (1608 Metric); Supplier Device Package: 0603 (1608 Metric); Size / Dimension: 0.063" L x 0.031" W (1.60mm x 0.80mm); Height: 0.022" (0.55mm); Number of Terminations: 2; ComponentLink1URL: http://rohmfs.rohm.com/en/products/databook/datasheet/passive/resistor/chip_resistor/esr.pdf; ComponentLink1Description: http://rohmfs.rohm.com/en/products/databook/datasheet/passive/resistor/chip_resistor/esr.pdf
footprint RESC1608X06N (0603) (Chip Resistor, 2-Leads, Body 1.60x0.80mm, IPC Medium Density)
pins: 1, 2

## EVQ-PE105K
designator SW?  (value not drawn)
SWITCH TACTILE SPST-NO 0.05A 12V; Manufacturer: Panasonic Electronic Components; Manufacturer Part Number: EVQ-PE105K; Switch Function: Off-Mom; Contact Rating @ Voltage: 0.05A @ 12VDC; Actuator Type: Standard; Actuator Height off PCB, from Pins: 5.00mm; Actuator Orientation: Top Actuated; Outline: 6.00mm x 3.50mm; Illumination: Non-Illuminated; Operating Force: 100gf; Switch Travel: 0.25mm; Mechanical Life: 50,000 Cycles; Supplier 1: Digi-Key; RoHS: RoHS Compliant; Category: Switches; Stock 1: 18000; Pricing 1: 2000=0.32832, 4000=0.3078, 6000=0.29754, 10000=0.27702, 14000=0.27292, 50000=0.26676 (USD); Packaging: Tape & Reel (TR); Circuit: SPST-NO; Mounting Type: Surface Mount; Termination Style: Gull Wing; Illumination Voltage (Nominal): -; Illumination Type, Color: -; Ingress Protection: -; Features: -; Actuator Material: -; Operating Temperature: -30°C ~ 85°C; ComponentLink1URL: http://www.panasonic.com/industrial/components/pdf/ATK0000CE7.pdf; ComponentLink1Description: http://www.panasonic.com/industrial/components/pdf/ATK0000CE7.pdf
footprint EVQ-PE105K
pins: 1, 2

## FAN2500S30X
designator U?  (value not drawn)
IC REG LDO 3V 0.1A SOT23-5; Manufacturer: Fairchild Semiconductor; Manufacturer Part Number: FAN2500S30X; Regulator Topology: Positive Fixed; Current - Output: 100mA; Voltage - Dropout (Typical): 0.1V @ 100mA; Number of Regulators: 1; Voltage - Input: Up to 6.5V; Supplier 1: Digi-Key; RoHS: RoHS Compliant; Category: Integrated Circuits (ICs); Stock 1: 6000; Pricing 1: 3000=0.25462, 6000=0.23706, 15000=0.22828, 30000=0.2195, 75000=0.21599, 150000=0.21072 (USD); Packaging: Tape & Reel (TR); Voltage - Output: 3V; Current - Limit (Min): -; Operating Temperature: -40°C ~ 125°C; Mounting Type: Surface Mount; Package / Case: SC-74A, SOT-753; Supplier Device Package: SOT-23-5; ComponentLink1URL: http://www.fairchildsemi.com/ds/FA/FAN2500.pdf; ComponentLink1Description: http://www.fairchildsemi.com/ds/FA/FAN2500.pdf
footprint SOT95P280X145-5N (SOT23, 5-Leads, Body 2.90x2.80mm, Pitch 0.95mm, IPC Medium Density)
pins: 1 Vin, 2 GND, 3 EN, 4 BYP, 5 Vout

## GCM188R71H473KA55D
designator C?  (value not drawn)
CAP CER 0.047UF 50V 10% X7R 0603; Manufacturer: Murata Electronics North America; Manufacturer Part Number: GCM188R71H473KA55D; Capacitance: 0.047µF; Supplier 1: Digi-Key; RoHS: RoHS Compliant; Category: Capacitors; Stock 1: 6024650; Pricing 1: 1=0.13, 10=0.092, 50=0.0528, 100=0.0436, 250=0.03672, 500=0.03076, 1000=0.02475 (USD); Packaging: Cut Tape (CT); Tolerance: ±10%; Voltage - Rated: 50V; Temperature Coefficient: X7R; Mounting Type: Surface Mount, MLCC; Operating Temperature: -55°C ~ 125°C; Applications: Automotive; Ratings: AEC-Q200; Package / Case: 0603 (1608 Metric); Size / Dimension: 0.063" L x 0.031" W (1.60mm x 0.80mm); Height - Seated (Max): -; Thickness (Max): 0.035" (0.90mm); Lead Spacing: -; Features: -; Lead Style: -; ComponentLink1URL: http://www.murata.com/products/catalog/pdf/c03e.pdf; ComponentLink1Description: http://www.murata.com/products/catalog/pdf/c03e.pdf
footprint CAPC1608X08N (0603) (Chip Capacitor, 2-Leads, Body 1.60x0.80mm, IPC Medium Density)
pins: 1, 2
text: 47nF

## GCM1885C1H120JA16D
designator C?  (value not drawn)
CAP CER 12PF 50V 5% NP0 0603; Manufacturer: Murata Electronics North America; Manufacturer Part Number: GCM1885C1H120JA16D; Temperature Coefficient: C0G, NP0; Supplier 1: Digi-Key; RoHS: RoHS Compliant; Category: Capacitors; Stock 1: 12000; Pricing 1: 4000=0.01311, 8000=0.01197, 12000=0.0114, 28000=0.01083, 100000=0.00784 (USD); Packaging: Tape & Reel (TR); Capacitance: 12pF; Voltage - Rated: 50V; Tolerance: ±5%; Mounting Type: Surface Mount, MLCC; Operating Temperature: -55°C ~ 125°C; Applications: Automotive; Ratings: AEC-Q200; Package / Case: 0603 (1608 Metric); Size / Dimension: 0.063" L x 0.031" W (1.60mm x 0.80mm); Height - Seated (Max): -; Thickness (Max): 0.035" (0.90mm); Lead Spacing: -; Features: -; Lead Style: -; ComponentLink1URL: http://www.murata.com/products/catalog/pdf/c03e.pdf; ComponentLink1Description: http://www.murata.com/products/catalog/pdf/c03e.pdf
footprint CAPC1608X08N (0603) (Chip Capacitor, 2-Leads, Body 1.60x0.80mm, IPC Medium Density)
pins: 1, 2

## GCM1885C1H330JA16D
designator C?  (value not drawn)
CAP CER 33PF 50V 5% NP0 0603; Manufacturer: Murata Electronics North America; Manufacturer Part Number: GCM1885C1H330JA16D; Temperature Coefficient: C0G, NP0; Supplier 1: Digi-Key; RoHS: RoHS Compliant; Category: Capacitors; Stock 1: 47538; Pricing 1: 1=0.1, 10=0.073, 50=0.0396, 100=0.0336, 250=0.02744, 500=0.02348, 1000=0.0183 (USD); Packaging: Cut Tape (CT); Capacitance: 33pF; Voltage - Rated: 50V; Tolerance: ±5%; Mounting Type: Surface Mount, MLCC; Operating Temperature: -55°C ~ 125°C; Applications: Automotive; Ratings: AEC-Q200; Package / Case: 0603 (1608 Metric); Size / Dimension: 0.063" L x 0.031" W (1.60mm x 0.80mm); Height - Seated (Max): -; Thickness (Max): 0.035" (0.90mm); Lead Spacing: -; Features: -; Lead Style: -; ComponentLink1URL: http://www.murata.com/products/catalog/pdf/c03e.pdf; ComponentLink1Description: http://www.murata.com/products/catalog/pdf/c03e.pdf
footprint CAPC1608X08N (0603) (Chip Capacitor, 2-Leads, Body 1.60x0.80mm, IPC Medium Density)
pins: 1, 2

## GJM0335C1ER80BB01D
designator C?  (value not drawn)
CAP CER 0.8PF 25V NP0 0201; Manufacturer: Murata Electronics North America; Manufacturer Part Number: GJM0335C1ER80BB01D; Capacitance: 0.80pF; Tolerance: ±0.1pF; Temperature Coefficient: C0G, NP0; Supplier 1: Digi-Key; RoHS: RoHS Compliant; Category: Capacitors; Stock 1: 28911; Pricing 1: 1=0.21, 10=0.146, 50=0.0886, 100=0.0743, 250=0.0602, 500=0.0531, 1000=0.04514, 5000=0.03806 (USD); Packaging: Cut Tape (CT); Voltage - Rated: 25V; Mounting Type: Surface Mount, MLCC; Operating Temperature: -55°C ~ 125°C; Applications: RF, Microwave, High Frequency; Ratings: -; Package / Case: 0201 (0603 Metric); Size / Dimension: 0.024" L x 0.012" W (0.60mm x 0.30mm); Height - Seated (Max): -; Thickness (Max): 0.013" (0.33mm); Lead Spacing: -; Features: High Q, Low Loss; Lead Style: -; ComponentLink1URL: http://www.murata.com/products/catalog/pdf/c02e.pdf; ComponentLink1Description: http://www.murata.com/products/catalog/pdf/c02e.pdf
footprint CAPC1608X08N (0603) (Chip Capacitor, 2-Leads, Body 1.60x0.80mm, IPC Medium Density)
pins: 1, 2
text: 0.8pF

## GQM1885C1H101JB01D
designator C?  (value not drawn)
CAP CER 100PF 50V 5% NP0 0603; Manufacturer: Murata Electronics North America; Manufacturer Part Number: GQM1885C1H101JB01D; Temperature Coefficient: C0G, NP0; Supplier 1: Digi-Key; RoHS: RoHS Compliant; Category: Capacitors; Stock 1: 5529; Pricing 1: 1=0.78, 10=0.75, 50=0.448, 100=0.364, 250=0.3024, 500=0.2744, 1000=0.252 (USD); Packaging: Cut Tape (CT); Capacitance: 100pF; Voltage - Rated: 50V; Tolerance: ±5%; Mounting Type: Surface Mount, MLCC; Operating Temperature: -55°C ~ 125°C; Applications: RF, Microwave, High Frequency; Ratings: -; Package / Case: 0603 (1608 Metric); Size / Dimension: 0.063" L x 0.031" W (1.60mm x 0.80mm); Height - Seated (Max): -; Thickness (Max): 0.035" (0.90mm); Lead Spacing: -; Features: High Q, Low Loss; Lead Style: -; ComponentLink1URL: http://www.murata.com/products/catalog/pdf/c02e.pdf; ComponentLink1Description: http://www.murata.com/products/catalog/pdf/c02e.pdf
footprint CAPC1608X08N (0603) (Chip Capacitor, 2-Leads, Body 1.60x0.80mm, IPC Medium Density)
pins: 1, 2

## GQM1885C1H220JB01D
designator C?  (value not drawn)
CAP CER 22PF 50V 5% NP0 0603; Manufacturer: Murata Electronics North America; Manufacturer Part Number: GQM1885C1H220JB01D; Temperature Coefficient: C0G, NP0; Supplier 1: Digi-Key; RoHS: RoHS Compliant; Category: Capacitors; Stock 1: 12000; Pricing 1: 4000=0.168, 8000=0.1568, 12000=0.154, 28000=0.1512, 100000=0.14 (USD); Packaging: Tape & Reel (TR); Capacitance: 22pF; Tolerance: ±5%; Voltage - Rated: 50V; Mounting Type: Surface Mount, MLCC; Operating Temperature: -55°C ~ 125°C; Applications: RF, Microwave, High Frequency; Ratings: -; Package / Case: 0603 (1608 Metric); Size / Dimension: 0.063" L x 0.031" W (1.60mm x 0.80mm); Height - Seated (Max): -; Thickness (Max): 0.035" (0.90mm); Lead Spacing: -; Features: High Q, Low Loss; Lead Style: -; ComponentLink1URL: http://www.murata.com/products/catalog/pdf/c02e.pdf; ComponentLink1Description: http://www.murata.com/products/catalog/pdf/c02e.pdf
footprint CAPC1608X08N (0603) (Chip Capacitor, 2-Leads, Body 1.60x0.80mm, IPC Medium Density)
pins: 1, 2

## GQM1885C1H820JB01D
designator C?  (value not drawn)
CAP CER 82PF 50V 5% NP0 0603; Manufacturer: Murata Electronics North America; Manufacturer Part Number: GQM1885C1H820JB01D; Temperature Coefficient: C0G, NP0; Supplier 1: Digi-Key; RoHS: RoHS Compliant; Category: Capacitors; Stock 1: 7568; Pricing 1: 1=0.78, 10=0.75, 50=0.448, 100=0.364, 250=0.3024, 500=0.2744, 1000=0.252 (USD); Packaging: Cut Tape (CT); Capacitance: 82pF; Voltage - Rated: 50V; Tolerance: ±5%; Mounting Type: Surface Mount, MLCC; Operating Temperature: -55°C ~ 125°C; Applications: RF, Microwave, High Frequency; Ratings: -; Package / Case: 0603 (1608 Metric); Size / Dimension: 0.063" L x 0.031" W (1.60mm x 0.80mm); Height - Seated (Max): -; Thickness (Max): 0.035" (0.90mm); Lead Spacing: -; Features: High Q, Low Loss; Lead Style: -; ComponentLink1URL: http://www.murata.com/products/catalog/pdf/c02e.pdf; ComponentLink1Description: http://www.murata.com/products/catalog/pdf/c02e.pdf
footprint CAPC1608X08N (0603) (Chip Capacitor, 2-Leads, Body 1.60x0.80mm, IPC Medium Density)
pins: 1, 2

## GQM1885C2A1R2BB01D
designator C?  (value not drawn)
CAP CER 1.2PF 100V NP0 0603; Manufacturer: Murata Electronics North America; Manufacturer Part Number: GQM1885C2A1R2BB01D; Tolerance: ±0.1pF; Temperature Coefficient: C0G, NP0; Supplier 1: Digi-Key; RoHS: RoHS Compliant; Category: Capacitors; Stock 1: 12494; Pricing 1: 1=0.71, 10=0.679, 50=0.4052, 100=0.3292, 250=0.27352, 500=0.24818, 1000=0.22793 (USD); Packaging: Cut Tape (CT); Capacitance: 1.2pF; Voltage - Rated: 100V; Mounting Type: Surface Mount, MLCC; Operating Temperature: -55°C ~ 125°C; Applications: RF, Microwave, High Frequency; Ratings: -; Package / Case: 0603 (1608 Metric); Size / Dimension: 0.063" L x 0.031" W (1.60mm x 0.80mm); Height - Seated (Max): -; Thickness (Max): 0.035" (0.90mm); Lead Spacing: -; Features: High Q, Low Loss; Lead Style: -; ComponentLink1URL: http://www.murata.com/products/catalog/pdf/c02e.pdf; ComponentLink1Description: http://www.murata.com/products/catalog/pdf/c02e.pdf
footprint CAPC1608X08N (0603) (Chip Capacitor, 2-Leads, Body 1.60x0.80mm, IPC Medium Density)
pins: 1, 2

## GQM1885C2A6R2CB01D
designator C?  value 6.2pF
CAP CER 6.2PF 100V NP0 0603; Manufacturer: Murata Electronics North America; Manufacturer Part Number: GQM1885C2A6R2CB01D; Tolerance: ±0.25pF; Temperature Coefficient: C0G, NP0; Supplier 1: Digi-Key; RoHS: RoHS Compliant; Category: Capacitors; Stock 1: 9750; Pricing 1: 1=0.55, 10=0.523, 50=0.3124, 100=0.2538, 250=0.21088, 500=0.19134, 1000=0.17573 (USD); Packaging: Cut Tape (CT); Capacitance: 6.2pF; Voltage - Rated: 100V; Mounting Type: Surface Mount, MLCC; Operating Temperature: -55°C ~ 125°C; Applications: RF, Microwave, High Frequency; Ratings: -; Package / Case: 0603 (1608 Metric); Size / Dimension: 0.063" L x 0.031" W (1.60mm x 0.80mm); Height - Seated (Max): -; Thickness (Max): 0.035" (0.90mm); Lead Spacing: -; Features: High Q, Low Loss; Lead Style: -; ComponentLink1URL: http://www.murata.com/~/media/webrenewal/support/library/catalog/products/capacitor/mlcc/c02e.pdf; ComponentLink1Description: http://www.murata.com/~/media/webrenewal/support/library/catalog/products/capacitor/mlcc/c02e.pdf; Supplier Part Number 1: 490-3562-1-ND
footprint CAPC1608X08N (0603) (Chip Capacitor, 2-Leads, Body 1.60x0.80mm, IPC Medium Density)
pins: 1, 2

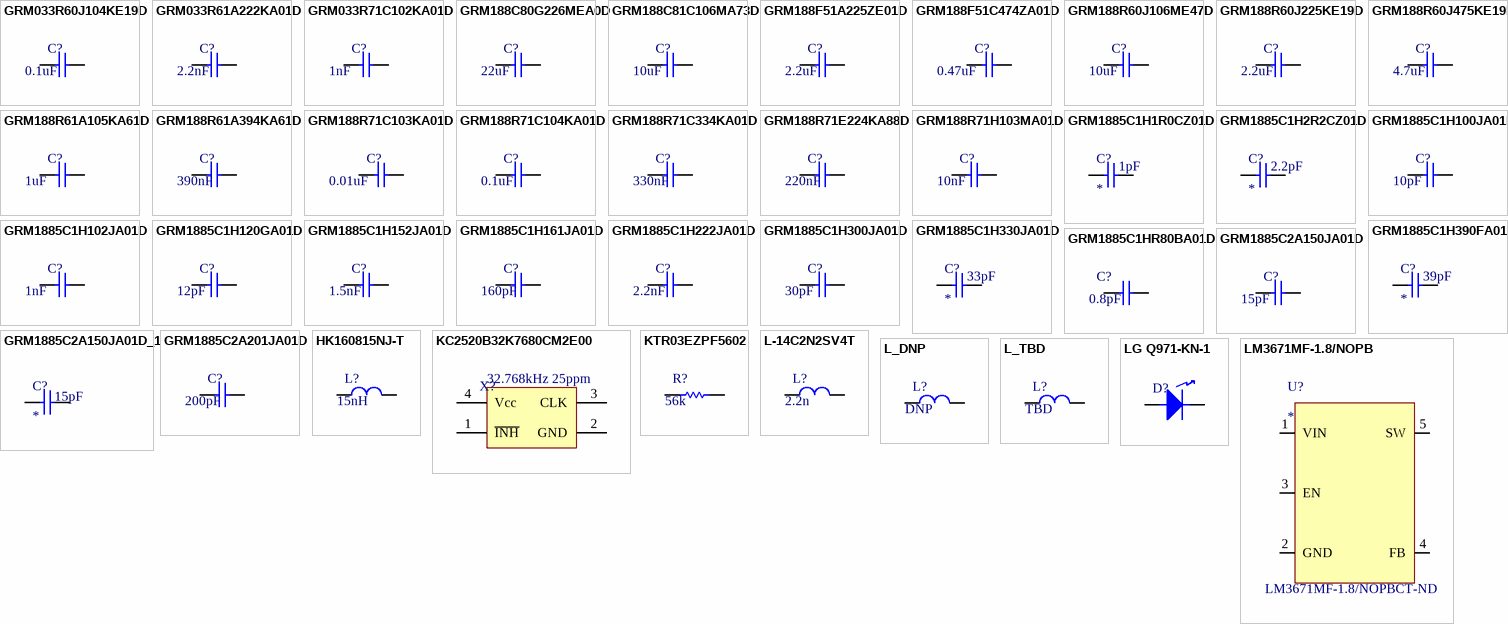
[diagram p1: symbols GRM033R60J104KE19D to LM3671MF-1.8/NOPB]

## GRM033R60J104KE19D
designator C?  (value not drawn)
CAP CER 0.1UF 6.3V 10% X5R 0201; Manufacturer: Murata Electronics North America; Manufacturer Part Number: GRM033R60J104KE19D; Capacitance: 0.1µF; Supplier 1: Digi-Key; RoHS: RoHS Compliant; Category: Capacitors; Stock 1: 2387364; Pricing 1: 1=0.1, 10=0.035, 50=0.0188, 100=0.016, 250=0.01304, 500=0.01116, 1000=0.0087, 5000=0.00725 (USD); Packaging: Cut Tape (CT); Voltage - Rated: 6.3V; Tolerance: ±10%; Temperature Coefficient: X5R; Mounting Type: Surface Mount, MLCC; Operating Temperature: -55°C ~ 85°C; Applications: General Purpose; Ratings: -; Package / Case: 0201 (0603 Metric); Size / Dimension: 0.024" L x 0.012" W (0.60mm x 0.30mm); Height - Seated (Max): -; Thickness (Max): 0.013" (0.33mm); Lead Spacing: -; Features: -; Lead Style: -; ComponentLink1URL: http://search.murata.co.jp/Ceramy/image/img/A01X/G101/ENG/GRM033R60J104KE19-01.pdf; ComponentLink1Description: http://search.murata.co.jp/Ceramy/image/img/A01X/G101/ENG/GRM033R60J104KE19-01.pdf
footprint CAPC1608X08N (0603) (Chip Capacitor, 2-Leads, Body 1.60x0.80mm, IPC Medium Density)
pins: 1, 2
text: 0.1uF

## GRM033R61A222KA01D
designator C?  (value not drawn)
CAP CER 2200PF 10V 10% X5R 0201; Manufacturer: Murata Electronics North America; Manufacturer Part Number: GRM033R61A222KA01D; Supplier 1: Digi-Key; Category: Capacitors; Stock 1: 95750
footprint CAPC1608X08N (0603) (Chip Capacitor, 2-Leads, Body 1.60x0.80mm, IPC Medium Density)
pins: 1, 2
text: 2.2nF

## GRM033R71C102KA01D
designator C?  (value not drawn)
CAP CER 1000PF 16V 10% X7R 0201; Manufacturer: Murata Electronics North America; Manufacturer Part Number: GRM033R71C102KA01D; Supplier 1: Digi-Key; RoHS: RoHS Compliant; Category: Capacitors; Stock 1: 938390; Pricing 1: 1=0.1, 10=0.025, 50=0.0134, 100=0.0113, 250=0.00924, 500=0.0079, 1000=0.00615, 5000=0.00513 (USD); Packaging: Cut Tape (CT); Capacitance: 1000pF; Tolerance: ±10%; Voltage - Rated: 16V; Temperature Coefficient: X7R; Mounting Type: Surface Mount, MLCC; Operating Temperature: -55°C ~ 125°C; Applications: General Purpose; Ratings: -; Package / Case: 0201 (0603 Metric); Size / Dimension: 0.024" L x 0.012" W (0.60mm x 0.30mm); Height - Seated (Max): -; Thickness (Max): 0.013" (0.33mm); Lead Spacing: -; Features: -; Lead Style: -; ComponentLink1URL: http://search.murata.co.jp/Ceramy/image/img/A01X/G101/ENG/GRM033R71C102KA01-01.pdf; ComponentLink1Description: http://search.murata.co.jp/Ceramy/image/img/A01X/G101/ENG/GRM033R71C102KA01-01.pdf
footprint CAPC1608X08N (0603) (Chip Capacitor, 2-Leads, Body 1.60x0.80mm, IPC Medium Density)
pins: 1, 2
text: 1nF

## GRM188C80G226MEA0D
designator C?  (value not drawn)
CAP CER 22UF 4V X6S 0603; Manufacturer: Murata Electronics North America; Manufacturer Part Number: GRM188C80G226MEA0D; Capacitance: 22µF; Tolerance: ±20%; Supplier 1: Digi-Key; RoHS: RoHS Compliant; Category: Capacitors; Stock 1: 213749; Pricing 1: 1=0.25, 10=0.205, 50=0.1152, 100=0.1024, 250=0.0768, 500=0.06784, 1000=0.06016 (USD); Packaging: Cut Tape (CT); Voltage - Rated: 4V; Temperature Coefficient: X6S; Mounting Type: Surface Mount, MLCC; Operating Temperature: -55°C ~ 105°C; Applications: General Purpose; Ratings: -; Package / Case: 0603 (1608 Metric); Size / Dimension: 0.063" L x 0.031" W (1.60mm x 0.80mm); Height - Seated (Max): -; Thickness (Max): 0.031" (0.80mm); Lead Spacing: -; Features: Derating Recommended; Lead Style: -; ComponentLink1URL: http://www.murata.com/~/media/webrenewal/support/library/catalog/products/capacitor/mlcc/c02e.pdf; ComponentLink1Description: http://www.murata.com/~/media/webrenewal/support/library/catalog/products/capacitor/mlcc/c02e.pdf; Supplier Part Number 1: 490-7196-1-ND
footprint CAPC1608X08N (0603) (Chip Capacitor, 2-Leads, Body 1.60x0.80mm, IPC Medium Density)
pins: 1, 2
text: 22uF

## GRM188C81C106MA73D
designator C?  (value not drawn)
CAP CER 10UF 16V 20% X6S 0603; Manufacturer: Murata Electronics North America; Manufacturer Part Number: GRM188C81C106MA73D; Capacitance: 10µF; Supplier 1: Digi-Key; RoHS: RoHS Compliant; Category: Capacitors; Stock 1: 59274; Pricing 1: 1=0.4, 10=0.349, 50=0.2118, 100=0.1744, 250=0.13952, 500=0.12708, 1000=0.11237 (USD); Packaging: Cut Tape (CT); Tolerance: ±20%; Voltage - Rated: 16V; Temperature Coefficient: X6S; Mounting Type: Surface Mount, MLCC; Operating Temperature: -55°C ~ 105°C; Applications: General Purpose; Ratings: -; Package / Case: 0603 (1608 Metric); Size / Dimension: 0.063" L x 0.031" W (1.60mm x 0.80mm); Height - Seated (Max): -; Thickness (Max): 0.031" (0.80mm); Lead Spacing: -; Features: -; Lead Style: -; ComponentLink1URL: http://www.murata.com/products/catalog/pdf/c02e.pdf; ComponentLink1Description: http://www.murata.com/products/catalog/pdf/c02e.pdf
footprint CAPC1608X08N (0603) (Chip Capacitor, 2-Leads, Body 1.60x0.80mm, IPC Medium Density)
pins: 1, 2
text: 10uF

## GRM188F51A225ZE01D
designator C?  (value not drawn)
CAP CER 2.2UF 10V Y5V 0603; Manufacturer: Murata Electronics North America; Manufacturer Part Number: GRM188F51A225ZE01D; Capacitance: 2.2µF; Tolerance: -20%, +80%; Temperature Coefficient: Y5V (F); Supplier 1: Digi-Key; RoHS: RoHS Compliant; Category: Capacitors; Stock 1: 8000; Pricing 1: 4000=0.02043, 8000=0.019, 12000=0.01805, 28000=0.0171 (USD); Packaging: Tape & Reel (TR); Voltage - Rated: 10V; Mounting Type: Surface Mount, MLCC; Operating Temperature: -30°C ~ 85°C; Applications: General Purpose; Ratings: -; Package / Case: 0603 (1608 Metric); Size / Dimension: 0.063" L x 0.031" W (1.60mm x 0.80mm); Height - Seated (Max): -; Thickness (Max): 0.035" (0.90mm); Lead Spacing: -; Features: -; Lead Style: -; ComponentLink1URL: http://search.murata.co.jp/Ceramy/image/img/A01X/G101/ENG/GRM188F51A225ZE01-01.pdf; ComponentLink1Description: http://search.murata.co.jp/Ceramy/image/img/A01X/G101/ENG/GRM188F51A225ZE01-01.pdf
footprint CAPC1608X08N (0603) (Chip Capacitor, 2-Leads, Body 1.60x0.80mm, IPC Medium Density)
pins: 1, 2
text: 2.2uF

## GRM188F51C474ZA01D
designator C?  (value not drawn)
CAP CER 0.47UF 16V Y5V 0603; Manufacturer: Murata Electronics North America; Manufacturer Part Number: GRM188F51C474ZA01D; Capacitance: 0.47µF; Tolerance: -20%, +80%; Temperature Coefficient: Y5V (F); Supplier 1: Digi-Key; RoHS: RoHS Compliant; Category: Capacitors; Stock 1: 30301; Pricing 1: 1=0.1, 10=0.068, 50=0.037, 100=0.0314, 250=0.02564, 500=0.02194, 1000=0.0171 (USD); Packaging: Cut Tape (CT); Voltage - Rated: 16V; Mounting Type: Surface Mount, MLCC; Operating Temperature: -30°C ~ 85°C; Applications: General Purpose; Ratings: -; Package / Case: 0603 (1608 Metric); Size / Dimension: 0.063" L x 0.031" W (1.60mm x 0.80mm); Height - Seated (Max): -; Thickness (Max): 0.035" (0.90mm); Lead Spacing: -; Features: -; Lead Style: -; ComponentLink1URL: http://search.murata.co.jp/Ceramy/image/img/A01X/G101/ENG/GRM188F51C474ZA01-01.pdf; ComponentLink1Description: http://search.murata.co.jp/Ceramy/image/img/A01X/G101/ENG/GRM188F51C474ZA01-01.pdf; Supplier 2: Farnell
footprint CAPC1608X08N (0603) (Chip Capacitor, 2-Leads, Body 1.60x0.80mm, IPC Medium Density)
pins: 1, 2
text: 0.47uF

## GRM188R60J106ME47D
designator C?  (value not drawn)
CAP CER 10UF 6.3V 20% X5R 0603; Manufacturer: Murata Electronics North America; Manufacturer Part Number: GRM188R60J106ME47D; Capacitance: 10µF; Supplier 1: Digi-Key; RoHS: RoHS Compliant; Category: Capacitors; Stock 1: 2128324; Pricing 1: 1=0.24, 10=0.2, 50=0.1126, 100=0.1, 250=0.075, 500=0.06626, 1000=0.05875 (USD); Packaging: Digi-Reel®; Voltage - Rated: 6.3V; Tolerance: ±20%; Temperature Coefficient: X5R; Mounting Type: Surface Mount, MLCC; Operating Temperature: -55°C ~ 85°C; Applications: General Purpose; Ratings: -; Package / Case: 0603 (1608 Metric); Size / Dimension: 0.063" L x 0.031" W (1.60mm x 0.80mm); Height - Seated (Max): -; Thickness (Max): 0.035" (0.90mm); Lead Spacing: -; Features: -; Lead Style: -; ComponentLink1URL: http://search.murata.co.jp/Ceramy/image/img/A01X/G101/ENG/GRM188R60J106ME47-01.pdf; ComponentLink1Description: http://search.murata.co.jp/Ceramy/image/img/A01X/G101/ENG/GRM188R60J106ME47-01.pdf; Supplier 2: Digi-Key
footprint CAPC1608X08N (0603) (Chip Capacitor, 2-Leads, Body 1.60x0.80mm, IPC Medium Density)
pins: 1, 2
text: 10uF